# Altium schematic symbol library devBoard.SchLib: 3 symbols
Pins are listed as number, name and electrical type; pins without a type are passive.

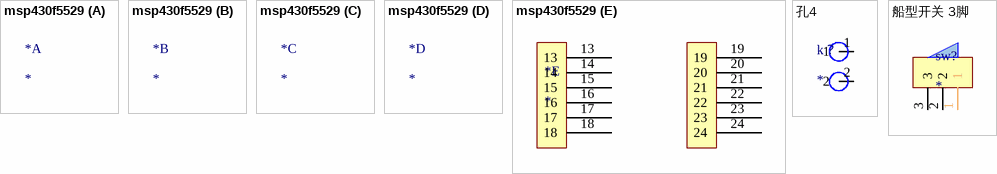
[diagram p0: symbols msp430f5529 to 船型开关 3脚]

## msp430f5529
designator *
part E pins: 13, 14, 15, 16, 17, 18, 19, 20, 21, 22, 23, 24

## 孔4
designator k？
footprint 孔4
pins: 1, 2

## 船型开关 3脚
designator sw?
footprint 船型开关 3脚
pins: 1, 2, 3